# Altium footprint library PcbLib1.PcbLib: 2 footprints
Each footprint in its own frame and in the unit in brackets; x right, y up, seen from the top. Pads: shape width x height; smd on the part's side, far side on the other; paste and mask are expansions set on the pad; w line width, h text height; cw(c..) or ccw(c..) is an arc to the next point about the centre after c.
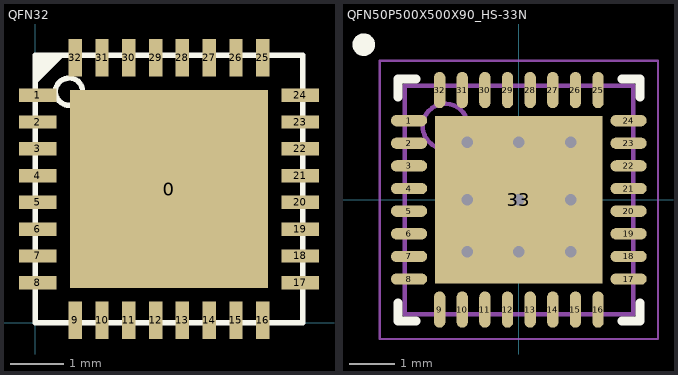
[diagram p0: the footprints below, top view; thin cyan lines are the x and y axes]

## QFN32 [mm]
pads (33):
  rect 3.7x3.7 smd: 0(2.5,2.5)
  rect 0.7x0.25 smd: 1(0.05,4.25) 2(0.05,3.75) 3(0.05,3.25) 4(0.05,2.75) 5(0.05,2.25) 6(0.05,1.75) 7(0.05,1.25) 8(0.05,0.75) 17(4.95,0.75) 18(4.95,1.25) 19(4.95,1.75) 20(4.95,2.25) 21(4.95,2.75) 22(4.95,3.25) 23(4.95,3.75) 24(4.95,4.25)
  rect 0.25x0.7 smd: 9(0.75,0.05) 10(1.25,0.05) 11(1.75,0.05) 12(2.25,0.05) 13(2.75,0.05) 14(3.25,0.05) 15(3.75,0.05) 16(4.25,0.05) 25(4.25,4.95) 26(3.75,4.95) 27(3.25,4.95) 28(2.75,4.95) 29(2.25,4.95) 30(1.75,4.95) 31(1.25,4.95) 32(0.75,4.95)
Top Overlay:
  circle w0.1: c0.635,4.318 r0.254
  region: 0,5 0.508,4.953 0,4.445
  lines w0.1: 0,0 5,0 5,5 0,5 0,0
3D body "qfn32.STEP": height 0.9, standoff 0, extent 0,0 5,5

## QFN50P500X500X90_HS-33N [mm] "QFN, 32-Leads, Body 5,00x5,00mm, Pitch 0,50mm, Thermal Pad 3,70x3,70mm, IPC Medium Density"
height 0.9
pads (33):
  oval 0.8x0.25 smd: 1(-2.425,1.75) 2(-2.425,1.25) 3(-2.425,0.75) 4(-2.425,0.25) 5(-2.425,-0.25) 6(-2.425,-0.75) 7(-2.425,-1.25) 8(-2.425,-1.75) 17(2.425,-1.75) 18(2.425,-1.25) 19(2.425,-0.75) 20(2.425,-0.25) 21(2.425,0.25) 22(2.425,0.75) 23(2.425,1.25) 24(2.425,1.75)
  oval 0.25x0.8 smd: 9(-1.75,-2.425) 10(-1.25,-2.425) 11(-0.75,-2.425) 12(-0.25,-2.425) 13(0.25,-2.425) 14(0.75,-2.425) 15(1.25,-2.425) 16(1.75,-2.425) 25(1.75,2.425) 26(1.25,2.425) 27(0.75,2.425) 28(0.25,2.425) 29(-0.25,2.425) 30(-0.75,2.425) 31(-1.25,2.425) 32(-1.75,2.425)
  rect 3.7x3.7 smd: 33(0,0)
via -1.143,-1.143 diameter 0.508 hole 0.254
via 1.143,-1.143 diameter 0.508 hole 0.254
via 0,-1.143 diameter 0.508 hole 0.254
via -1.143,1.27 diameter 0.508 hole 0.254
via 1.143,1.27 diameter 0.508 hole 0.254
via 0,1.27 diameter 0.508 hole 0.254
via -1.143,0 diameter 0.508 hole 0.254
via 1.143,0 diameter 0.508 hole 0.254
via 0,0 diameter 0.508 hole 0.254
Top Overlay:
  circle w0.25: c-3.429,3.429 r0.125
  lines w0.2: -2.675,-2.275 -2.675,-2.675 -2.275,-2.675 ; -2.675,2.275 -2.675,2.675 -2.275,2.675 ; 2.275,-2.675 2.675,-2.675 2.675,-2.275 ; 2.275,2.675 2.675,2.675 2.675,2.275
Mechanical 13:
  circle w0.1: c-1.625,1.625 r0.5
  lines w0.1: -2.525,-2.525 2.525,-2.525 2.525,2.525 -2.525,2.525 -2.525,-2.525
Mechanical 15:
  lines w0.05: -3.075,-3.075 3.075,-3.075 3.075,3.075 -3.075,3.075 -3.075,-3.075
  lines w0.1: -0.5,0 0.5,0 ; 0,-0.5 0,0.5
3D body: height 0.9, standoff 0.05, extent -2.525,-2.525 2.525,2.525